# Altium footprint library IEEE1394_Fire Wire.PcbLib: 3 footprints
Each footprint in its own frame and in the unit in brackets; x right, y up, seen from the top. Pads: shape width x height; smd on the part's side, far side on the other; paste and mask are expansions set on the pad; w line width, h text height; cw(c..) or ccw(c..) is an arc to the next point about the centre after c.
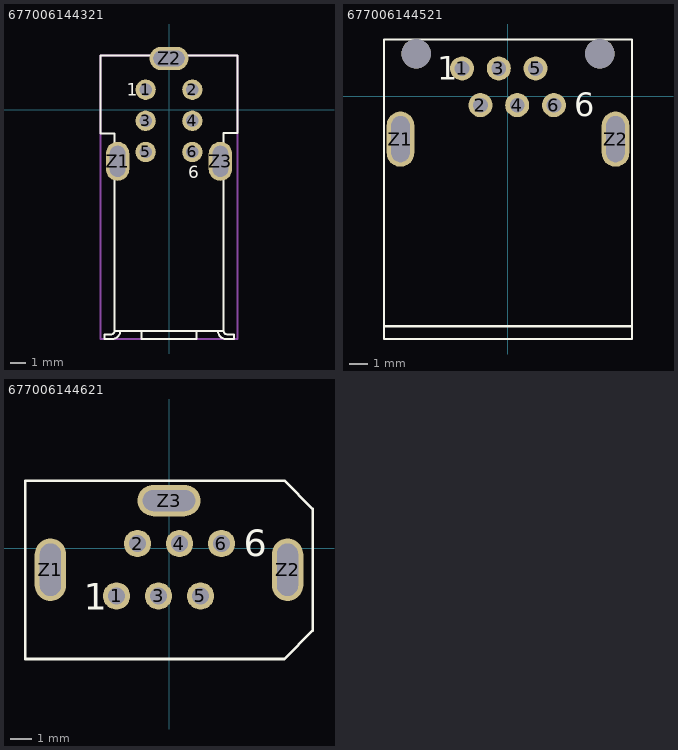
[diagram p0: the footprints below, top view; thin cyan lines are the x and y axes]

## 677006144321 [mm] "Female PCB connector Up-right TH"
height 14
pads (9):
  round 1.308 hole 0.8: 1(-1.5,1.3) 2(1.5,1.3) 3(-1.5,-0.7) 4(1.5,-0.7) 5(-1.5,-2.7) 6(1.5,-2.7)
  oval 1.5x2.5 hole 1 slot 2 at 90 deg: Z1(-3.3,-3.3) Z3(3.3,-3.3)
  oval 2.5x1.5 hole 1 slot 2 at 0 deg: Z2(0,3.3)
Top Overlay:
  lines w0.127: -3.142,-14.263 cw(c-3.639,-14.199) -3.639,-14.7 -4.15,-14.7 -4.15,-14.398 -3.698,-14.398 ccw(c-3.698,-14.2) -3.5,-14.2 ; -1.75,-14.2 -1.75,-14.7 1.75,-14.7 1.75,-14.2 ; 3.152,-14.263 ccw(c3.649,-14.199) 3.649,-14.7 4.16,-14.7 4.16,-14.398 3.708,-14.398 cw(c3.708,-14.2) 3.51,-14.2 ; -3.5,-14.2 3.51,-14.2 ; -3.5,-14.2 -3.5,-1.51 -4.4,-1.51 -4.4,3.5 4.4,3.5 4.4,-1.49 4.39,-1.49 3.51,-1.49 3.51,-14.2
  text "1" at -2.7,0.92 h0.8
  text "6" at 1.25,-4.4 h0.8
Mechanical 15:
  lines w0.127: -4.39,-14.7 4.4,-14.7 4.4,3.5 -4.39,3.5 -4.39,-14.7
3D body: height 13.36, standoff -3.28, extent -4.39,-14.7 4.41,3.5

## 677006144521 [mm] "Female PCB connector Horizontal TH"
height 8.4
pads (10):
  round 1.308 hole 0.8: 1(-2.5,1.525) 2(-1.5,-0.475) 3(-0.5,1.525) 4(0.5,-0.475) 5(1.5,1.525) 6(2.5,-0.475)
  oval 1.5x3 hole 1 slot 2.5 at 90 deg: Z1(-5.85,-2.325) Z2(5.85,-2.325)
  round 1.6 hole 1.6 unplated: ""(-5,2.325) ""(5,2.325)
Top Overlay:
  lines w0.127: -6.75,-12.5 6.75,-12.5 ; -6.75,-13.2 -6.75,3.1 6.75,3.1 6.75,-13.2 -6.75,-13.2
  text "6" at 3.61,-1.07 h1.27
  text "1" at -3.86,0.92 h1.27
3D body: height 8.56, standoff -3.34, extent -6.75,-13.2 6.75,3.1

## 677006144621 [mm] "Female PCB connector Vertical TH"
height 14.8
pads (9):
  round 1.3 hole 0.8: 1(-2.5,-2.275) 2(-1.5,0.225) 3(-0.5,-2.275) 4(0.5,0.225) 5(1.5,-2.275) 6(2.5,0.225)
  oval 1.5x3 hole 1 slot 2.5 at 90 deg: Z1(-5.65,-1.025) Z2(5.65,-1.025)
  oval 3x1.5 hole 1 slot 2.5 at 0 deg: Z3(0,2.275)
Top Overlay:
  lines w0.127: -6.85,-5.275 5.5,-5.275 6.85,-3.925 6.85,1.875 5.5,3.225 -6.85,3.225 -6.85,-5.275
  text "6" at 3.556,-0.381 h1.27
  text "1" at -4.064,-2.921 h1.27
3D body: height 14.81, standoff -3.44, extent -6.85,-5.275 6.85,3.225